# Altium footprint library PcbLib1.PcbLib: 17 footprints (part 1 of 2)
Each footprint in its own frame and in the unit in brackets; x right, y up, seen from the top. Pads: shape width x height; smd on the part's side, far side on the other; paste and mask are expansions set on the pad; w line width, h text height; cw(c..) or ccw(c..) is an arc to the next point about the centre after c.
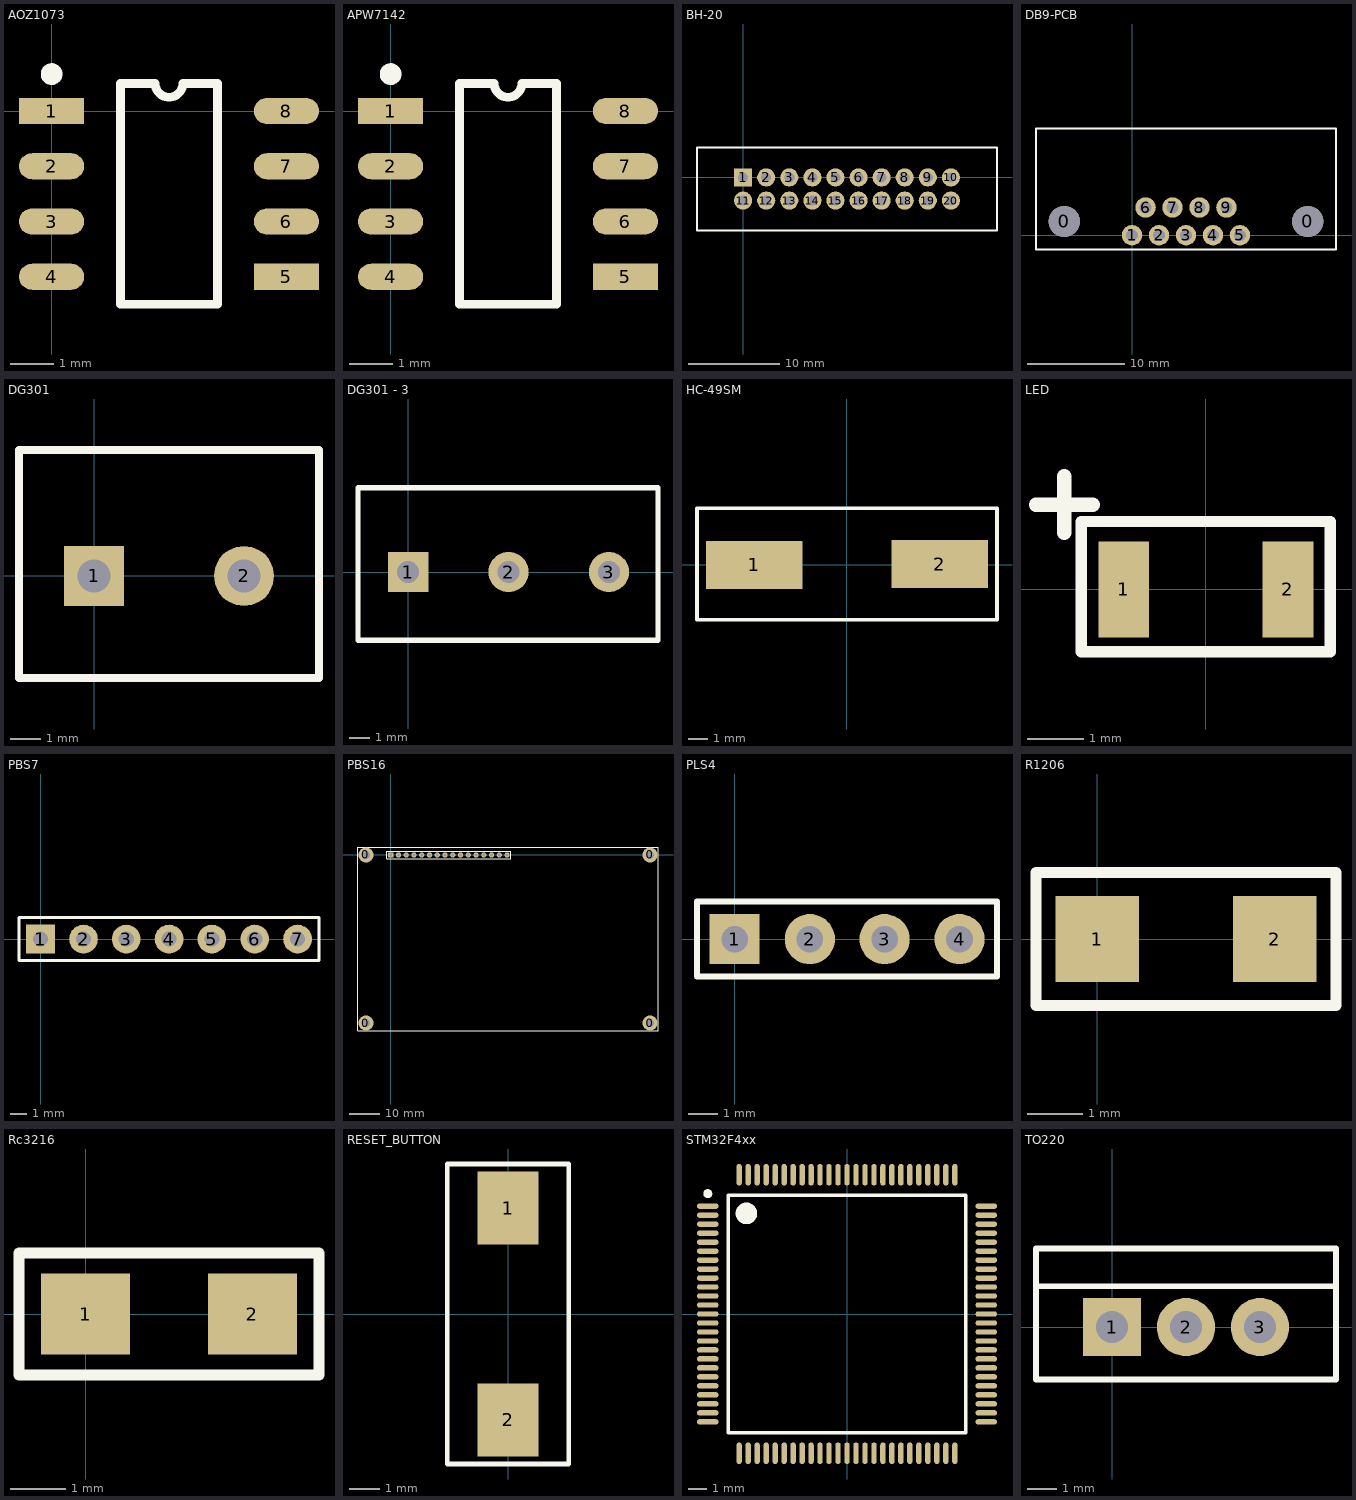
[diagram p0: the footprints below, top view; thin cyan lines are the x and y axes]

## AOZ1073 [mm]
pads (8):
  rect 1.5x0.6 smd: 1(0,0) 5(5.4,-3.81)
  oval 1.5x0.6 smd: 2(0,-1.27) 3(0,-2.54) 4(0,-3.81) 6(5.4,-2.54) 7(5.4,-1.27) 8(5.4,0)
Top Overlay:
  circle w0.25: c0,0.85 r0.125
  lines w0.2: 1.585,-4.445 3.815,-4.445 3.815,0.635 3.017,0.635 cw(c2.7,0.635) 2.382,0.635 1.585,0.635 1.585,-4.445
3D body: height 1.75, standoff 0, extent -0.3,-4.35 5.7,0.55

## APW7142 [mm]
pads (8):
  rect 1.5x0.6 smd: 1(0,0) 5(5.4,-3.81)
  oval 1.5x0.6 smd: 2(0,-1.27) 3(0,-2.54) 4(0,-3.81) 6(5.4,-2.54) 7(5.4,-1.27) 8(5.4,0)
Top Overlay:
  circle w0.25: c0,0.85 r0.125
  lines w0.2: 1.585,-4.445 1.585,0.635 2.382,0.635 ccw(c2.7,0.635) 3.017,0.635 3.815,0.635 3.815,-4.445 1.585,-4.445
3D body: height 1.75, standoff 0, extent -0.3,-4.35 5.7,0.55

## BH-20 [mm]
pads (20):
  rect 2x2 hole 1.1: 1(0,0)
  round 2 hole 1.1: 2(2.54,0) 3(5.08,0) 4(7.62,0) 5(10.16,0) 6(12.7,0) 7(15.24,0) 8(17.78,0) 9(20.32,0) 10(22.86,0) 11(0,-2.54) 12(2.54,-2.54) 13(5.08,-2.54) 14(7.62,-2.54) 15(10.16,-2.54) 16(12.7,-2.54) 17(15.24,-2.54) 18(17.78,-2.54) 19(20.32,-2.54) 20(22.86,-2.54)
Top Overlay:
  lines w0.2: -5.07,-5.82 -5.07,3.28 27.93,3.28 27.93,-5.82 -5.07,-5.82
3D body: height 8.9, standoff -3.5, extent -5.05,-5.75 27.95,3.25

## DB9-PCB [mm]
pads (11):
  round 3.2 hole 3.2: 0(-6.955,1.42) 0(18.035,1.42)
  round 2.1 hole 1.2: 1(0,0) 2(2.77,0) 3(5.54,0) 4(8.31,0) 5(11.08,0) 6(1.385,2.84) 7(4.155,2.84) 8(6.925,2.84) 9(9.695,2.84)
Top Overlay:
  lines w0.2: -9.86,-1.46 20.94,-1.46 20.94,10.94 -9.86,10.94 -9.86,-1.46
3D body: height 12.55, standoff -3.5, extent -10.155,-1.7 21.155,16.7

## DG301 [mm]
pads (2):
  rect 2x2 hole 1.1: 1(0,0)
  round 2 hole 1.1: 2(5,0)
Top Overlay:
  lines w0.254: -2.5,-3.4 -2.5,4.2 7.5,4.2 7.5,-3.4 -2.5,-3.4
3D body: height 3.73, standoff -10.43, extent -3.1,-3.4 7.5,4.2

## DG301 - 3 [mm]
pads (3):
  rect 2x2 hole 1.1: 1(0,0)
  round 2 hole 1.1: 2(5,0) 3(10,0)
Top Overlay:
  lines w0.254: -2.5,-3.4 -2.5,4.2 12.446,4.2 12.446,-3.4 -2.5,-3.4
3D body: height 10, standoff -4.16, extent -3.1,-3.4 12.5,4.2

## HC-49SM [mm]
pads (2):
  rect 5x2.5 smd: 1(-4.825,0) 2(4.825,0.05)
Top Overlay:
  lines w0.2: 7.75,-2.85 -7.8,-2.85 -7.8,2.95 7.8,2.95 7.8,-2.85
3D body: height 4, standoff 0, extent -6.7,-2.35 6.7,2.45

## LED [mm]
pads (2):
  rect 0.9x1.7 smd: 1(-1.45,0) 2(1.45,0)
Top Overlay:
  lines w0.2: -2.2,-1.1 2.2,-1.1 2.2,1.2 1.1,1.2 -1.1,1.2 -2.2,1.2 -2.2,-1.1
  lines w0.254: -3,1.5 -2,1.5 ; -2.5,1 -2.5,2
3D body: height 1.4, standoff 0, extent -1.65,-0.8 1.65,0.8

## PBS7 [mm]
pads (7):
  rect 1.7x1.7 hole 0.9: 1(0,0)
  round 1.7 hole 0.9: 2(2.55,0) 3(5.08,0) 4(7.62,0) 5(10.16,0) 6(12.7,0) 7(15.24,0)
Top Overlay:
  lines w0.2: -1.275,-1.27 16.51,-1.27 16.51,1.275 -1.275,1.275 -1.275,-1.27
3D body: height 8.48, standoff -3.22, extent -1.556,-1.241 16.764,1.219

## PBS16 [mm]
pads (20):
  round 5 hole 2.5: 0(-8.1,-55) 0(-8.1,0) 0(84.9,-55) 0(84.9,0)
  rect 1.7x1.7 hole 0.9: 1(0,0)
  round 1.7 hole 0.9: 2(2.55,0) 3(5.08,0) 4(7.62,0) 5(10.16,0) 6(12.7,0) 7(15.24,0) 8(17.78,0) 9(20.33,0) 10(22.86,0) 11(25.4,0) 12(27.94,0) 13(30.48,0) 14(33.02,0) 15(35.56,0) 16(38.1,0)
Top Overlay:
  lines w0.2: -10.7,-57.6 -10.7,2.6 87.5,2.6 87.5,-57.6 -10.7,-57.6 ; -1.275,-1.27 -1.275,1.275 39.37,1.275 39.37,-1.27 -1.275,-1.27
3D body: height 8.48, standoff -3.22, extent -1.54,-1.27 39.64,1.19

## PLS4 [mm]
pads (4):
  rect 1.7x1.7 hole 0.9: 1(0,0)
  round 1.7 hole 0.9: 2(2.55,0) 3(5.08,0) 4(7.62,0)
Top Overlay:
  lines w0.2: -1.275,-1.27 -1.275,1.275 8.89,1.275 8.89,-1.27 -1.275,-1.27
3D body: height 8.55, standoff -3, extent -1.27,-1.25 8.89,1.25

## R1206 [mm]
pads (2):
  rect 1.5x1.55 smd: 1(0,0) 2(3.2,0)
Top Overlay:
  lines w0.2: -1.1,-1.2 4.3,-1.2 4.3,1.2 -1.1,1.2 -1.1,-1.2
3D body: height 0.65, standoff 0, extent 0.05,-0.8 3.15,0.8

## Rc3216 [mm]
pads (2):
  rect 1.6x1.45 smd: 1(0,0) 2(3,0)
Top Overlay:
  lines w0.2: -1.2,-1.1 -1.2,1.1 4.2,1.1 4.2,-1.1 -1.2,-1.1
3D body: height 1.6, standoff 0, extent -0.1,-0.8 3.1,0.8

## RESET_BUTTON [mm]
pads (2):
  rect 2x2.4 smd: 1(0,3.5) 2(0,-3.5)
Top Overlay:
  lines w0.15: -2,-4.953 2,-4.953 2,4.953 0.875,4.953 -2,4.953 -2,-4.953
3D body: height 5.5, standoff 0, extent -1.75,-4 1.75,4

## STM32F4xx [mm]
height 1.6
pads (100):
  oval 1.2x0.3 smd: 1(-7.75,6) 2(-7.75,5.5) 3(-7.75,5) 4(-7.75,4.5) 5(-7.75,4) 6(-7.75,3.5) 7(-7.75,3) 8(-7.75,2.5) 9(-7.75,2) 10(-7.75,1.5) 11(-7.75,1) 12(-7.75,0.5) 13(-7.75,0) 14(-7.75,-0.5) 15(-7.75,-1) 16(-7.75,-1.5) 17(-7.75,-2) 18(-7.75,-2.5) 19(-7.75,-3) 20(-7.75,-3.5) 21(-7.75,-4) 22(-7.75,-4.5) 23(-7.75,-5) 24(-7.75,-5.5) 25(-7.75,-6) 51(7.75,-6) 52(7.75,-5.5) 53(7.75,-5) 54(7.75,-4.5) 55(7.75,-4) 56(7.75,-3.5) 57(7.75,-3) 58(7.75,-2.5) 59(7.75,-2) 60(7.75,-1.5) 61(7.75,-1) 62(7.75,-0.5) 63(7.75,0) 64(7.75,0.5) 65(7.75,1) 66(7.75,1.5) 67(7.75,2) 68(7.75,2.5) 69(7.75,3) 70(7.75,3.5) 71(7.75,4) 72(7.75,4.5) 73(7.75,5) 74(7.75,5.5) 75(7.75,6)
  oval 0.3x1.2 smd: 26(-6,-7.75) 27(-5.5,-7.75) 28(-5,-7.75) 29(-4.5,-7.75) 30(-4,-7.75) 31(-3.5,-7.75) 32(-3,-7.75) 33(-2.5,-7.75) 34(-2,-7.75) 35(-1.5,-7.75) 36(-1,-7.75) 37(-0.5,-7.75) 38(0,-7.75) 39(0.5,-7.75) 40(1,-7.75) 41(1.5,-7.75) 42(2,-7.75) 43(2.5,-7.75) 44(3,-7.75) 45(3.5,-7.75) 46(4,-7.75) 47(4.5,-7.75) 48(5,-7.75) 49(5.5,-7.75) 50(6,-7.75) 76(6,7.75) 77(5.5,7.75) 78(5,7.75) 79(4.5,7.75) 80(4,7.75) 81(3.5,7.75) 82(3,7.75) 83(2.5,7.75) 84(2,7.75) 85(1.5,7.75) 86(1,7.75) 87(0.5,7.75) 88(0,7.75) 89(-0.5,7.75) 90(-1,7.75) 91(-1.5,7.75) 92(-2,7.75) 93(-2.5,7.75) 94(-3,7.75) 95(-3.5,7.75) 96(-4,7.75) 97(-4.5,7.75) 98(-5,7.75) 99(-5.5,7.75) 100(-6,7.75)
Top Overlay:
  circle w0.25: c-7.75,6.7 r0.125
  circle w0.6: c-5.6,5.6 r0.3
  lines w0.2: -6.6,-6.6 -6.6,6.6 6.6,6.6 6.6,-6.6 -6.6,-6.6
3D body: height 1.59, standoff -0.01, extent -8,-8 8,8

## TO220 [mm] "LM338"
pads (3):
  rect 2x2 hole 1.1: 1(0,0)
  round 2 hole 1.1: 2(2.54,0) 3(5.08,0)
Top Overlay:
  lines w0.2: -2.61,1.4 7.69,1.4 ; -2.61,-1.8 -2.61,2.7 7.69,2.7 7.69,-1.8 -2.61,-1.8
3D body: height 18.85, standoff -9.62, extent -2.55,-1.725 7.61,2.626